# EAGLE library part HEADER1X10 (library texas-boosterpack)
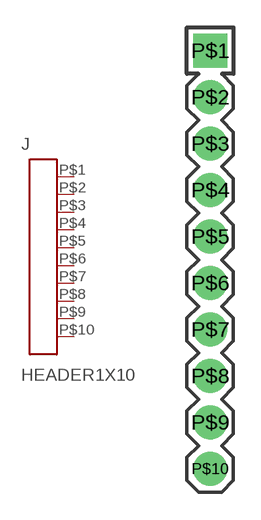
[diagram p2: symbol with the pads of 1X10; footprint 1X10]

Designator prefix J

## HEADER1X10  [1X10]
P$1  1
P$2  2
P$3  3
P$4  4
P$5  5
P$6  6
P$7  7
P$8  8
P$9  9
P$10  10

## Footprint 1X10 (pad centres in mm)
drill 1.016 pad 1.88 square: P$1 0,10.16
drill 1.016 pad 1.88: P$2 0,7.62; P$3 0,5.08; P$4 0,2.54; P$5 0,0; P$6 0,-2.54; P$7 0,-5.08; P$8 0,-7.62; P$9 0,-10.16; P$10 0,-12.7